# EAGLE library part SN65HVD77D (library Kommunikatsioon)
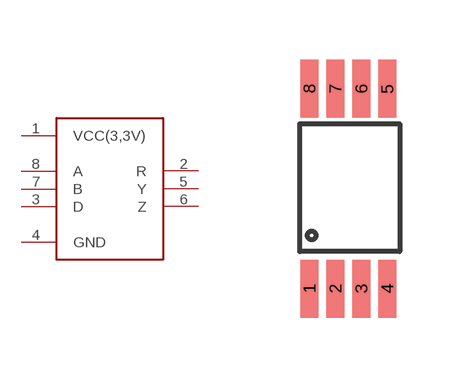
[diagram p0: symbol with the pads of SOIC-8; footprint SOIC-8]

Designator prefix -

## SN65HVD77D  [SOIC-8]
1  VCC(3,3V)
2  R
3  D
4  GND
5  Y
6  Z
7  B
8  A

## Footprint SOIC-8 (pad centres in mm)
smd 0.45 x 1.45: 1 -0.99,-2.49; 2 -0.34,-2.49; 3 0.31,-2.49; 4 0.96,-2.49; 5 0.96,2.51; 6 0.31,2.51; 7 -0.34,2.51; 8 -0.99,2.51